# EAGLE library part MICRELMIC4467 (library custom-ds)
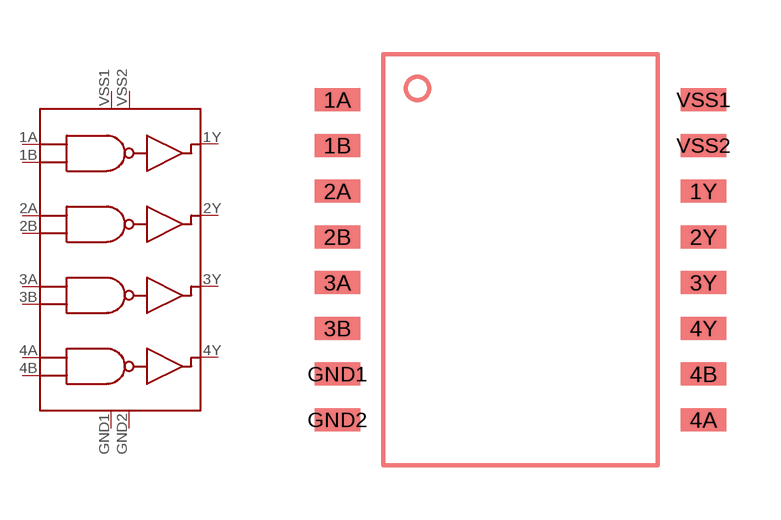
[diagram p2: symbol with the pads of MICREL-WIDE-SOIC16; footprint MICREL-WIDE-SOIC16]

Designator prefix U

## MICRELMIC4467  [MICREL-WIDE-SOIC16]
1A  1A  in
1B  1B  in
1Y  1Y  out
2A  2A  in
2B  2B  in
2Y  2Y  out
3A  3A  in
3B  3B  in
3Y  3Y  out
4A  4A  in
4B  4B  in
4Y  4Y  out
GND1  GND1  pwr
GND2  GND2  pwr
VSS1  VSS1  pwr
VSS2  VSS2  pwr

## Footprint MICREL-WIDE-SOIC16 (pad centres in mm)
Micrel SOIC Wide 16.
smd 1.27 x 0.635: 1A -5.08,3.81; 1B -5.08,2.54; 1Y 5.08,1.27; 2A -5.08,1.27; 2B -5.08,0; 2Y 5.08,0; 3A -5.08,-1.27; 3B -5.08,-2.54; 3Y 5.08,-1.27; 4A 5.08,-5.08; 4B 5.08,-3.81; 4Y 5.08,-2.54; GND1 -5.08,-3.81; GND2 -5.08,-5.08; VSS1 5.08,3.81; VSS2 5.08,2.54